# Altium footprint library 691216710003.PcbLib: 1 footprints
Each footprint in its own frame and in the unit in brackets; x right, y up, seen from the top. Pads: shape width x height; smd on the part's side, far side on the other; paste and mask are expansions set on the pad; w line width, h text height; cw(c..) or ccw(c..) is an arc to the next point about the centre after c.
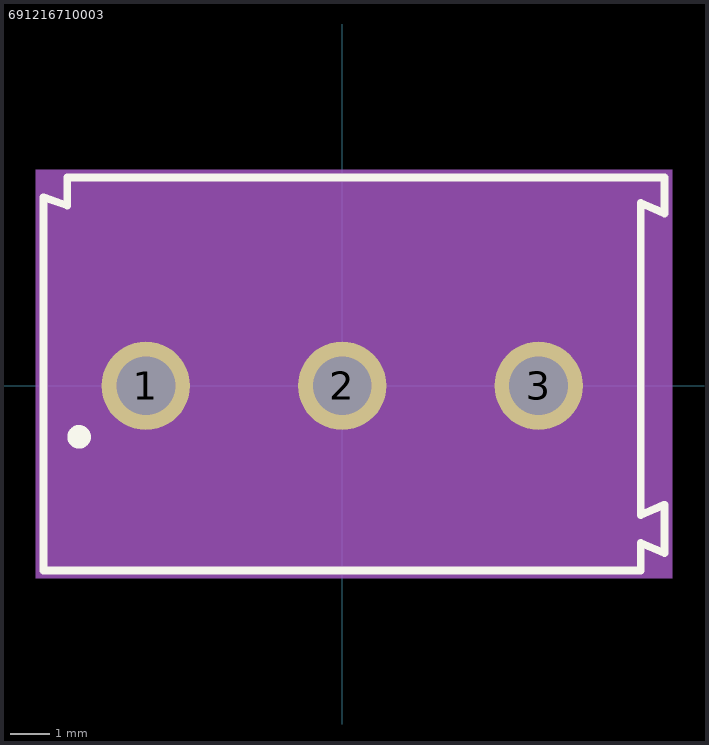
[diagram p0: the footprint, top view; thin cyan lines are the x and y axes]

## 691216710003 [mm]
pads (3):
  round 2.25 hole 1.5: 1(-5,0) 2(0,0) 3(5,0)
Top Overlay:
  circle w0.4: c-6.7,-1.3 r0.1
  lines w0.2: -7.6,-4.7 -7.6,4.8 -7,4.59 -7,5.3 8.2,5.3 8.2,4.39 7.6,4.65 7.6,-3.29 8.2,-3.03 8.2,-4.26 7.6,-4 7.6,-4.7 -7.6,-4.7
Assembly Top:
  lines w0.1: -7.5,-4.6 -7.5,4.7 -6.9,4.49 -6.9,5.2 8.1,5.2 8.1,4.49 7.5,4.75 7.5,-3.39 8.1,-3.13 8.1,-4.16 7.5,-3.9 7.5,-4.6 -7.5,-4.6
Courtyard Top:
  region: 8.4,-4.9 -7.8,-4.9 -7.8,5.5 8.4,5.5
3D body "step_temp.STEP": height 0, standoff -9.8, extent -15.6,-13.8 0,3.5